# EAGLE library part A6H-06 (library switch-dil)
DIP SWITCH
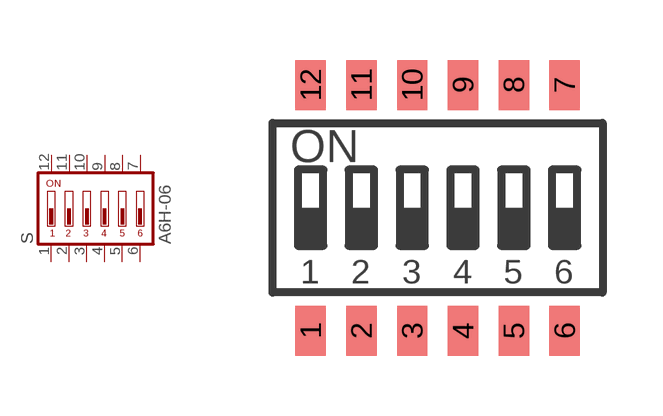
[diagram p72: symbol with the pads of A6H-06; footprint A6H-06]

Designator prefix S

## A6H-06  [A6H-06]
1  1  pas
2  2  pas
3  3  pas
4  4  pas
5  5  pas
6  6  pas
7  7  pas
8  8  pas
9  9  pas
10  10  pas
11  11  pas
12  12  pas

## Footprint A6H-06 (pad centres in mm)
DIP SWITCH Omron A6H Series
smd 0.76 x 1.25: 1 -3.175,-3.075; 2 -1.905,-3.075; 3 -0.635,-3.075; 4 0.635,-3.075; 5 1.905,-3.075; 6 3.175,-3.075; 7 3.175,3.075; 8 1.905,3.075; 9 0.635,3.075; 10 -0.635,3.075; 11 -1.905,3.075; 12 -3.175,3.075